# Altium footprint library IFX-PG-HSOF-5-1-V.PcbLib: 1 footprints
Each footprint in its own frame and in the unit in brackets; x right, y up, seen from the top. Pads: shape width x height; smd on the part's side, far side on the other; paste and mask are expansions set on the pad; w line width, h text height; cw(c..) or ccw(c..) is an arc to the next point about the centre after c.
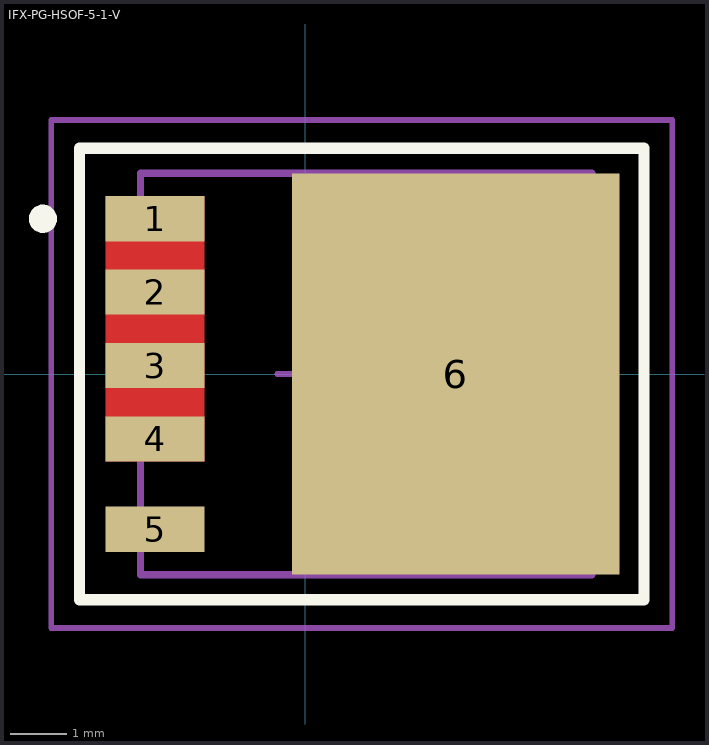
[diagram p0: the footprint, top view; thin cyan lines are the x and y axes]

## IFX-PG-HSOF-5-1-V [mm] "HSOF;SMD, 6 pin, 6.70mm L X 7.00mm W X 2.30mm H body"
height 2.3
pads (6):
  rect 1.75x0.8 smd paste-0.05 mask+0: 1(-2.663,2.75) 2(-2.663,1.45) 3(-2.663,0.15) 4(-2.663,-1.15) 5(-2.663,-2.75)
  rect 5.8x7.1 smd paste-3.55 mask-3.55: 6(2.663,0)
Top Layer:
  region: -3.538,3.15 -1.788,3.15 -1.788,-1.55 -3.538,-1.55
Top Overlay:
  circle w0.25: c-4.65,2.75 r0.125
  lines w0.2: -4,-4 -4,4 6,4 6,-4 -4,-4
Top Paste:
  region: 4.413,0.2 4.413,3.45 5.413,3.45 5.413,0.2
  region: 4.413,-3.45 4.413,-0.2 5.413,-0.2 5.413,-3.45
  region: -0.087,-3.2 -0.087,-0.2 0.913,-0.2 0.913,-3.2
  region: -0.087,0.2 -0.087,3.2 0.913,3.2 0.913,0.2
  region: 1.413,0.2 1.413,3.2 2.413,3.2 2.413,0.2
  region: 1.413,-3.2 1.413,-0.2 2.413,-0.2 2.413,-3.2
  region: 2.913,-2.9 2.913,-0.2 3.913,-0.2 3.913,-2.9
  region: 2.913,0.2 2.913,2.9 3.913,2.9 3.913,0.2
Top Solder:
  region: -0.238,3.3 2.462,3.3 2.462,3 4.312,3 4.312,3.55 5.562,3.55 5.562,-3.55 4.312,-3.55 4.312,-3 2.462,-3 2.462,-3.3 -0.238,-3.3
  region: -1.793,-1.55 -2.143,-1.55 -2.143,-0.75 -2.143,-0.25 -2.143,0.55 -2.143,1.05 -2.143,1.85 -2.143,2.35 -2.143,3.15 -1.793,3.15
Mechanical 13:
  lines w0.127: -2.921,-3.556 -2.921,3.556 5.08,3.556 5.08,-3.556 -2.921,-3.556
Mechanical 15:
  lines w0.1: -0.5,0 0.5,0 ; 0,-0.5 0,0.5 ; -4.5,-4.5 -4.5,4.5 6.5,4.5 6.5,-4.5 -4.5,-4.5
3D body "PG-HSOF-5-1.STEP": height 2.3, standoff 0, extent -2.937,-3.5 5.063,3.5